# EAGLE library part 79109-06_S (library con-molex-milli-grid)
RECEPTACAL
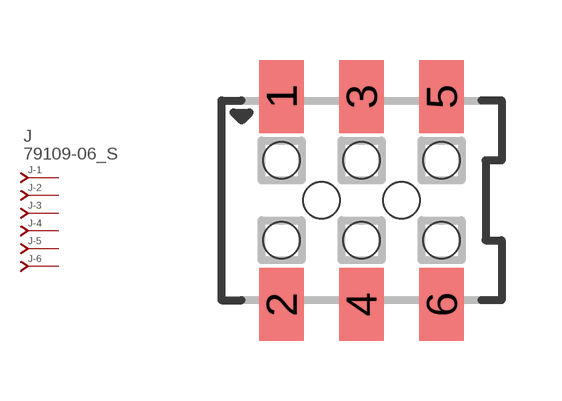
[diagram p259: symbol with the pads of 79109-06; footprint 79109-06]

Designator prefix J; gates -1=J-NV -2=J-N -3=J-N -4=J-N -5=J-N -6=J-N

## 79109-06_S  [79109-06]
1  -1:J  pas
2  -2:J  pas
3  -3:J  pas
4  -4:J  pas
5  -5:J  pas
6  -6:J  pas

## Footprint 79109-06 (pad centres in mm)
RECEPTACAL SMD Dual Row, Vertical, Pass-Thru
smd 1.12 x 1.83: 1 -2,2.6; 2 -2,-2.6; 3 0,2.6; 4 0,-2.6; 5 2,2.6; 6 2,-2.6
hole 0.914 at -1,0
hole 0.914 at -2,1
hole 0.914 at -2,-1
hole 0.914 at 0,-1
hole 0.914 at 0,1
hole 0.914 at 2,-1
hole 0.914 at 2,1
hole 0.914 at 1,0